# Altium integrated library Allen Bradley.IntLib: 2 symbols
Pins are listed as number, name and electrical type; pins without a type are passive.

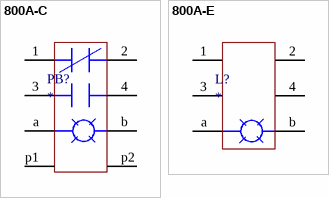
[diagram p0: symbols 800A-C to 800A-E]

## 800A-C
designator PB?
footprint footprint 800A-C
pins: 1, 2, 3, 4, a, b, p1, p2

## 800A-E
designator L?
footprint footprint 800A-E
pins: 1, 2, 3, 4, a, b